# EAGLE library part B14B-XASK-1 (library jst-xa)
Wire-to-Board 2.5mm pitch top mount connector Source: http://www.jst-mfg.com/product/pdf/jpn/XA1.pdf http://www.jst-mfg.com/product/detail.php?series=272
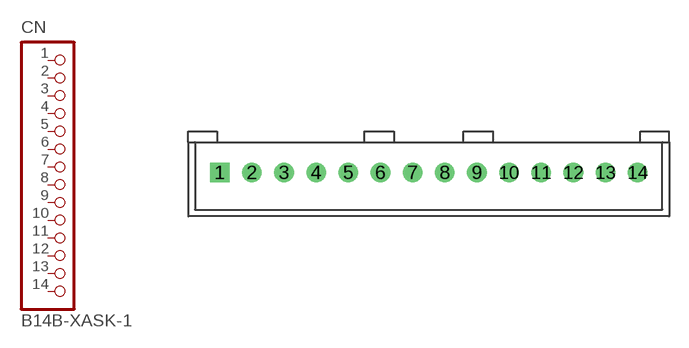
[diagram p8: symbol with the pads of B14B-XASK-1; footprint B14B-XASK-1]

Designator prefix CN

## B14B-XASK-1  [B14B-XASK-1]
1  1  pas
2  2  pas
3  3  pas
4  4  pas
5  5  pas
6  6  pas
7  7  pas
8  8  pas
9  9  pas
10  10  pas
11  11  pas
12  12  pas
13  13  pas
14  14  pas

## Footprint B14B-XASK-1 (pad centres in mm)
drill 1.016 square: 1 -16.25,0
drill 1.016: 2 -13.75,0; 3 -11.25,0; 4 -8.75,0; 5 -6.25,0; 6 -3.75,0; 7 -1.25,0; 8 1.25,0; 9 3.75,0; 10 6.25,0; 11 8.75,0; 12 11.25,0; 13 13.75,0; 14 16.25,0